# EAGLE library part BM06B-ACHFKS-GACN-ETF(LF)(SN) (library Headers)
CONN HEADER SMD R/A 6POS 1.2MM Manufacturer's datasheet <http://www.jst-mfg.com/product/pdf/eng/eACHF.pdf>
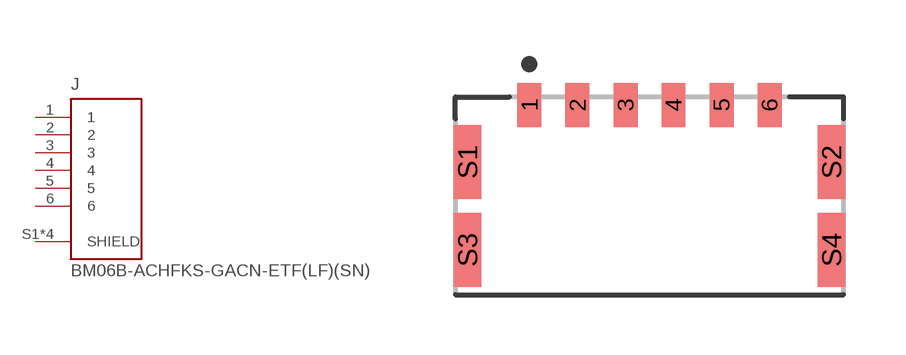
[diagram p42: symbol with the pads of BM06B-ACHFKS-GACN-ETF(LF)(SN); footprint BM06B-ACHFKS-GACN-ETF(LF)(SN)]

Designator prefix J

## BM06B-ACHFKS-GACN-ETF(LF)(SN) (CREATED_BY: PCBLayout.com; DIGIKEY_PN: 455-2881-2-ND; MANUFACTURER: JST Sales America Inc.; MPN: BM06B-ACHFKS-GACN-ETF(LF)(SN))  [BM06B-ACHFKS-GACN-ETF(LF)(SN)]
1  1  pas
2  2  pas
3  3  pas
4  4  pas
5  5  pas
6  6  pas
S1  SHIELD  pwr
S2  SHIELD  pwr
S3  SHIELD  pwr
S4  SHIELD  pwr

## Footprint BM06B-ACHFKS-GACN-ETF(LF)(SN) (pad centres in mm)
smd 0.6 x 1.1: 1 -3,2.275; 2 -1.8,2.275; 3 -0.6,2.275; 4 0.6,2.275; 5 1.8,2.275; 6 3,2.275
smd 0.7 x 1.85: S1 -4.55,0.85; S2 4.55,0.85; S3 -4.55,-1.35; S4 4.55,-1.35